# Altium schematic symbol library NXP.SchLib: 6 symbols
Pins are listed as number, name and electrical type; pins without a type are passive.

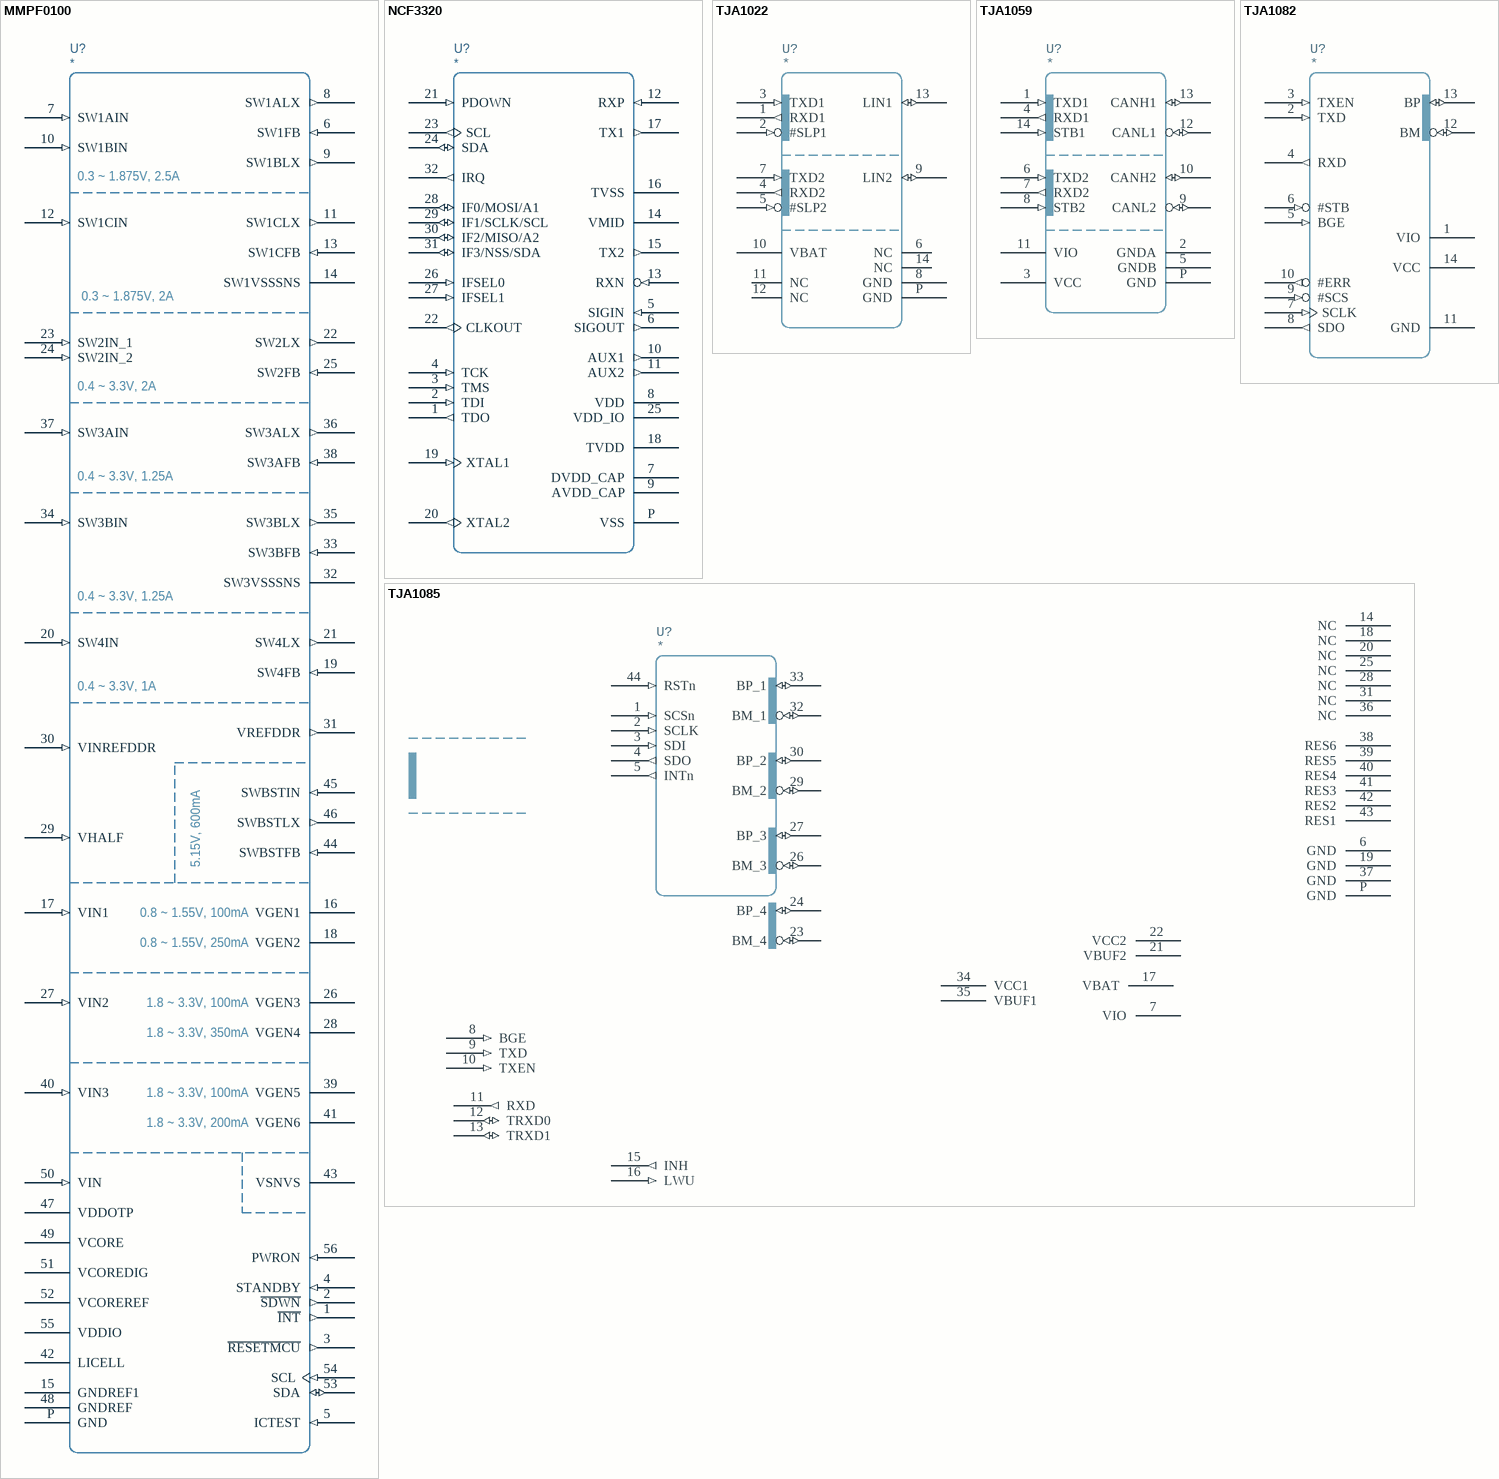
[diagram p0: symbols MMPF0100 to TJA1085]

## MMPF0100
designator U?
pins: 1 ~{INT} (out), 2 ~{SDWN} (out), 3 ~{RESETMCU} (out), 4 STANDBY (in), 5 ICTEST (in), 6 SW1FB (in), 7 SW1AIN (in), 8 SW1ALX (out), 9 SW1BLX (out), 10 SW1BIN (in), 11 SW1CLX (out), 12 SW1CIN (in), 13 SW1CFB (in), 14 SW1VSSSNS (power), 15 GNDREF1 (power), 16 VGEN1 (power), 17 VIN1 (in), 18 VGEN2 (power), 19 SW4FB (in), 20 SW4IN (in), 21 SW4LX (out), 22 SW2LX (out), 23 SW2IN_1 (in), 24 SW2IN_2 (in), 25 SW2FB (in), 26 VGEN3 (power), 27 VIN2 (in), 28 VGEN4 (power), 29 VHALF (in), 30 VINREFDDR (in), 31 VREFDDR (out), 32 SW3VSSSNS (power), 33 SW3BFB (in), 34 SW3BIN (in), 35 SW3BLX (out), 36 SW3ALX (out), 37 SW3AIN (in), 38 SW3AFB (in), 39 VGEN5 (power), 40 VIN3 (in), 41 VGEN6 (power), 42 LICELL (power), 43 VSNVS (power), 44 SWBSTFB (in), 45 SWBSTIN (in), 46 SWBSTLX (out), 47 VDDOTP (power), 48 GNDREF (power), 49 VCORE (power), 50 VIN (in), 51 VCOREDIG (power), 52 VCOREREF (power), 53 SDA (io), 54 SCL (in), 55 VDDIO (power), 56 PWRON (in), P GND
text: 0.3 ~ 1.875V, 2.5A; 0.3 ~ 1.875V, 2A; 0.4 ~ 3.3V, 2A; 0.4 ~ 3.3V, 1.25A; 0.4 ~ 3.3V, 1A; 5.15V, 600mA; 0.8 ~ 1.55V, 100mA; 0.8 ~ 1.55V, 250mA; 1.8 ~ 3.3V, 100mA; 1.8 ~ 3.3V, 350mA; 1.8 ~ 3.3V, 200mA

## NCF3320
designator U?
pins: 1 TDO (out), 2 TDI (in), 3 TMS (in), 4 TCK (in), 5 SIGIN (in), 6 SIGOUT (out), 7 DVDD_CAP, 8 VDD, 9 AVDD_CAP, 10 AUX1 (out), 11 AUX2 (out), 12 RXP (in), 13 RXN (in), 14 VMID, 15 TX2 (out), 16 TVSS, 17 TX1 (out), 18 TVDD, 19 XTAL1 (in), 20 XTAL2 (out), 21 PDOWN (in), 22 CLKOUT (out), 23 SCL (out), 24 SDA (io), 25 VDD_IO, 26 IFSEL0 (in), 27 IFSEL1 (in), 28 IF0/MOSI/A1 (io), 29 IF1/SCLK/SCL (io), 30 IF2/MISO/A2 (io), 31 IF3/NSS/SDA (io), 32 IRQ (out), P VSS

## TJA1022
designator U?
pins: 1 RXD1 (out), 2 #SLP1 (in), 3 TXD1 (in), 4 RXD2 (out), 5 #SLP2 (in), 6 NC, 7 TXD2 (in), 8 GND, 9 LIN2 (io), 10 VBAT, 11 NC, 12 NC, 13 LIN1 (io), 14 NC, P GND

## TJA1059
designator U?
pins: 1 TXD1 (in), 2 GNDA, 3 VCC, 4 RXD1 (out), 5 GNDB, 6 TXD2 (in), 7 RXD2 (out), 8 STB2 (in), 9 CANL2 (io), 10 CANH2 (io), 11 VIO, 12 CANL1 (io), 13 CANH1 (io), 14 STB1 (in), P GND

## TJA1082
designator U?
pins: 1 VIO, 2 TXD (in), 3 TXEN (in), 4 RXD (out), 5 BGE (in), 6 #STB (in), 7 SCLK (in), 8 SDO (out), 9 #SCS (in), 10 #ERR (out), 11 GND, 12 BM (io), 13 BP (io), 14 VCC

## TJA1085
designator U?
pins: 1 SCSn (in), 2 SCLK (in), 3 SDI (in), 4 SDO (out), 5 INTn (out), 6 GND, 7 VIO, 8 BGE (in), 9 TXD (in), 10 TXEN (in), 11 RXD (out), 12 TRXD0 (io), 13 TRXD1 (io), 14 NC, 15 INH (out), 16 LWU (in), 17 VBAT, 18 NC, 19 GND, 20 NC, 21 VBUF2, 22 VCC2, 23 BM_4 (io), 24 BP_4 (io), 25 NC, 26 BM_3 (io), 27 BP_3 (io), 28 NC, 29 BM_2 (io), 30 BP_2 (io), 31 NC, 32 BM_1 (io), 33 BP_1 (io), 34 VCC1, 35 VBUF1, 36 NC, 37 GND, 38 RES6, 39 RES5, 40 RES4, 41 RES3, 42 RES2, 43 RES1, 44 RSTn (in), P GND